# Altium footprint library AQ7538-08UTG.PcbLib: 1 footprints
Each footprint in its own frame and in the unit in brackets; x right, y up, seen from the top. Pads: shape width x height; smd on the part's side, far side on the other; paste and mask are expansions set on the pad; w line width, h text height; cw(c..) or ccw(c..) is an arc to the next point about the centre after c.
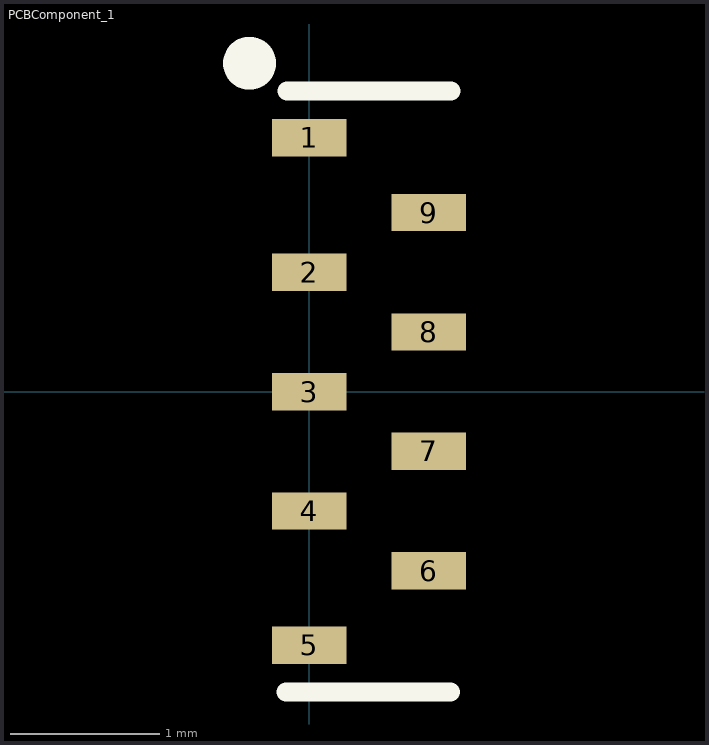
[diagram p0: the footprint, top view; thin cyan lines are the x and y axes]

## PCBComponent_1 [mm]
pads (9):
  rect 0.5x0.25 smd: 1(0,1.7) 2(0,0.8) 3(0,0) 4(0,-0.8) 5(0,-1.7) 6(0.8,-1.2) 7(0.8,-0.4) 8(0.8,0.4) 9(0.8,1.2)
Top Overlay:
  circle w0.254: c-0.4,2.2 r0.05
  lines w0.127: -0.154,-2.014 0.946,-2.014 ; -0.15,2.014 0.95,2.014
3D body: height 0.25, standoff 0, extent -0.15,-1.95 0.95,1.95